# Altium footprint library 503948051.PcbLib: 1 footprints
Each footprint in its own frame and in the unit in brackets; x right, y up, seen from the top. Pads: shape width x height; smd on the part's side, far side on the other; paste and mask are expansions set on the pad; w line width, h text height; cw(c..) or ccw(c..) is an arc to the next point about the centre after c.

## 503948051 [mm]
3D body "503948051.stp": height 0.94, standoff -0.94, extent -2.9,-1.848 3.35,0.152